# Altium integrated library Linear Technology Power Management Switching Regulator LTC1174-LTC3901.IntLib: 2647 symbols (part 259 of 364)
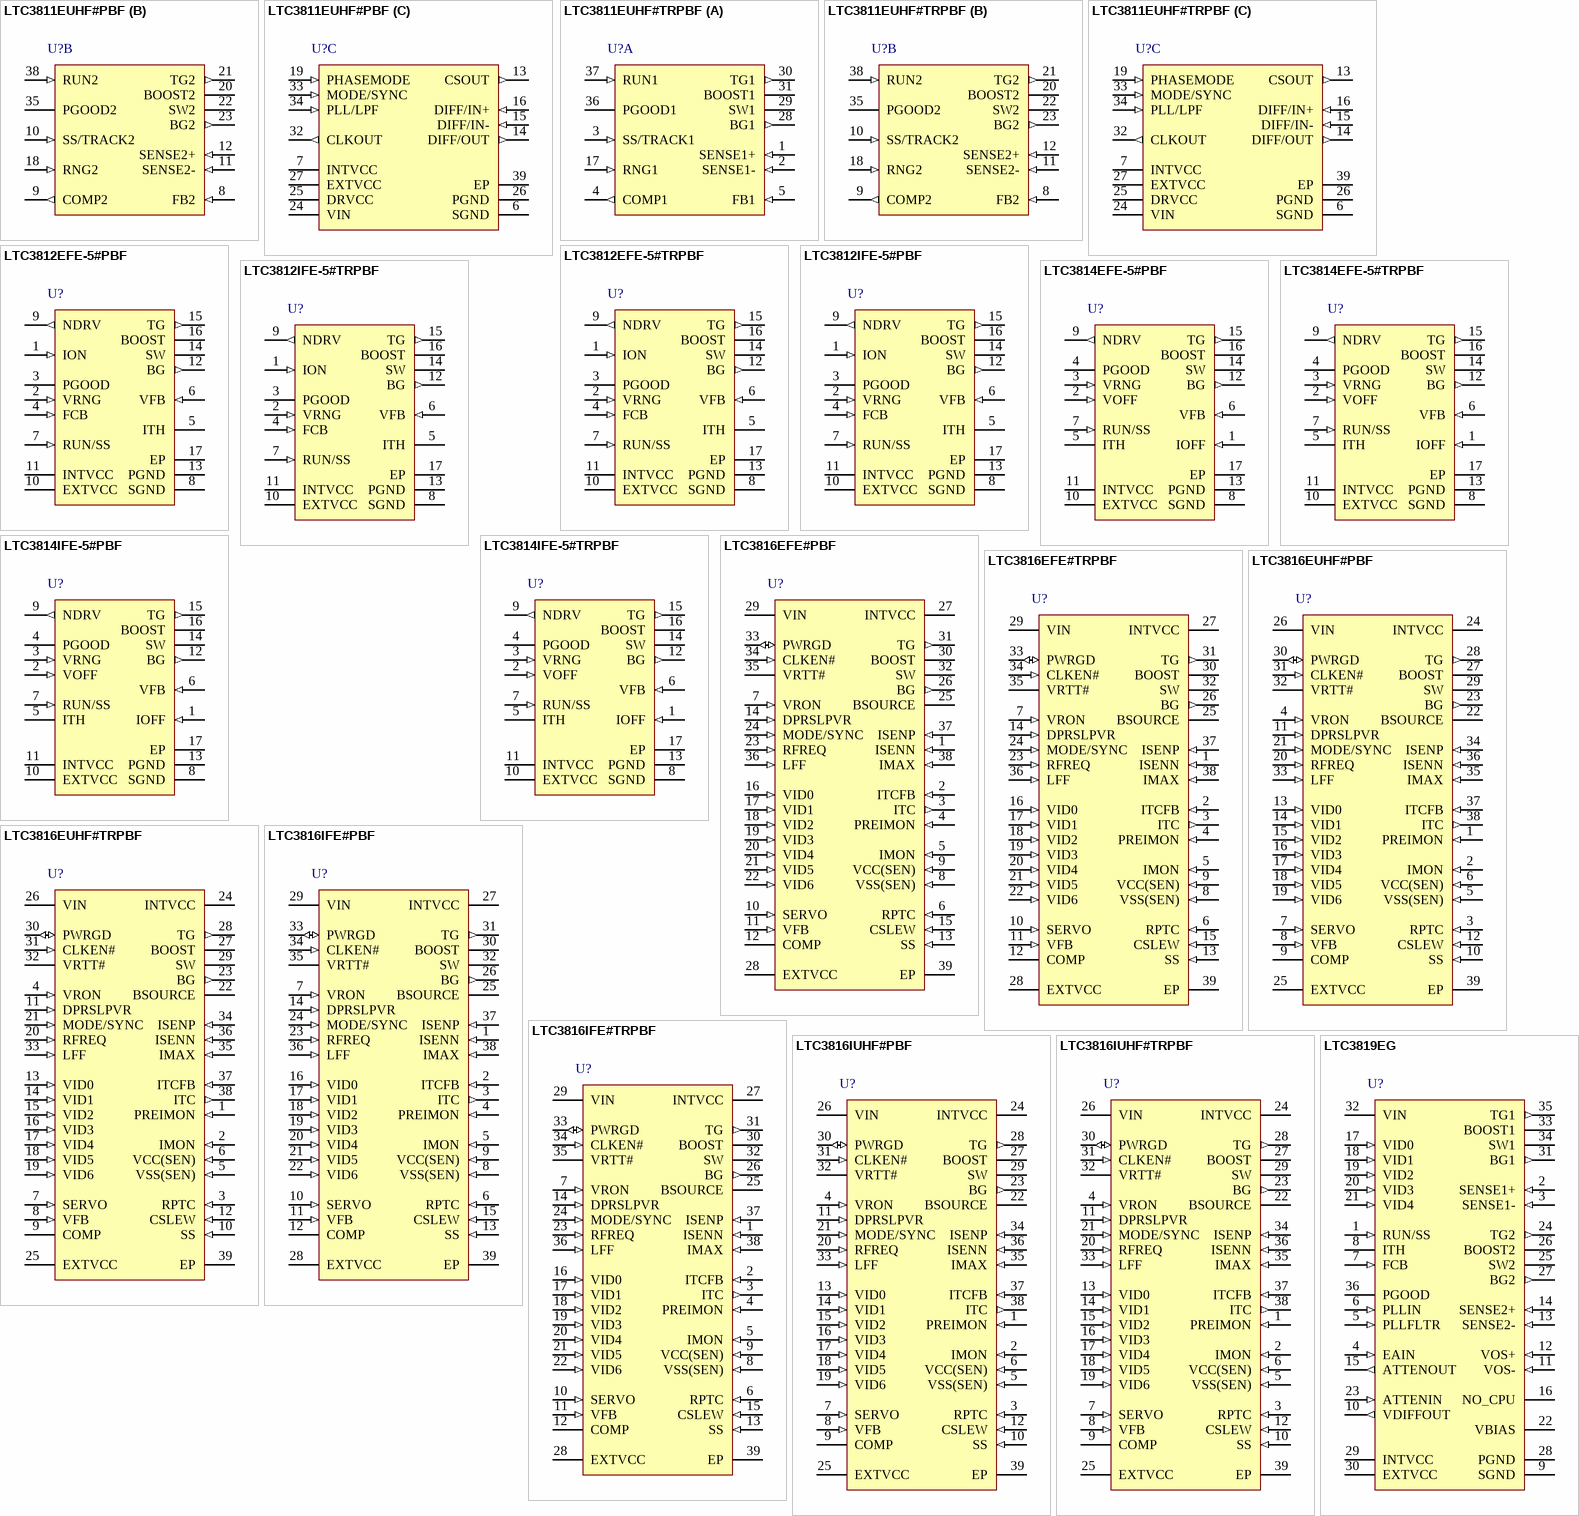
[diagram p249: symbols LTC3811EUHF#PBF to LTC3819EG]

## LTC3816IFE#TRPBF
designator U?
Single-Phase Wide VIN Range DC/DC Controller for Intel IMVP-6 / IMVP-6.5 CPUs, 38-pin SOP (FE-38-EPV-AA), -40 to 125 degC, Pb-Free, Tape and Reel; Manufacturer: Linear Technology; PartNumber: LTC3816IFE#TRPBF; Frequency Sync Range: 150kHz - 550kHz; Number of Outputs: 1; PackageVersion: Rev. C, 09/2010; PackageReference: FE-38; PackageDescription: 38-Pin Plastic TSSOP, Body 9.7 x 4.4 mm, Pitch 0.5 mm; Supplier 1: Digi-Key; Supplier Part Number 1: LTC3816IFE#TRPBF-ND; Packing: Tape and Reel; RoHS: TRUE; Mounting Technology: Surface Mount; ComponentLink1Description: Manufacturer URL; ComponentLink1URL: http://www.linear.com/; ComponentLink2Description: Datasheet; ComponentLink2URL: http://cds.linear.com/docs/en/datasheet/3816f.pdf; ComponentLink3Description: Package Specification; ComponentLink3URL: http://cds.linear.com/docs/en/packaging/TSSOP_38_05-08-1772.pdf
footprint LT-FE-38-EPV-AA_N (SOP, 38-Leads, Body 9.8x4.5mm, Pitch 0.5mm, Thermal Pad 4.75x2.74mm, IPC Medium Density)
footprint LT-FE-38-EPV-AA_L (SOP, 38-Leads, Body 9.8x4.5mm, Pitch 0.5mm, Thermal Pad 4.75x2.74mm, IPC High Density)
footprint LT-FE-38-EPV-AA_M (SOP, 38-Leads, Body 9.8x4.5mm, Pitch 0.5mm, Thermal Pad 4.75x2.74mm, IPC Low Density)
pins: 1 ISENN (in) "Current Sense Negative Input. Connect this pin to the negative terminal of the current sense resistor or the negative terminal of the inductor DCR lowpass filter.", 2 ITCFB (in) "Inductor DCR Temperature Compensation Amplifer Feedback Input. To derive the temperature compensated voltage dropped across the inductor DCR, connect a resistor from the SW node to this pin. An NTC network, in parallel with (See Datasheet)", 3 ITC (out) "Inductor DCR Temperature Compensation Amplifer Output. The IMON circuitry and the error amplifier obtain the temperature compensated DCR voltage through this amplifier.", 4 PREIMON (in) "IMON Current Output Setting. PREIMON is servoed to the ISENN potential. A resistor from PREIMON to ITC sets the IMON output current. For the IMVP-6 configuration, connect this pin to INTVCC.", 5 IMON (in) "IMVP-6/IMVP-6.5 Configuration Selection and Output Current Monitor. Connect this pin to INTVCC to select the IMVP-6 configuration. At start-up, the switcher VOUT is ramped to 1.2V (VBOOT). In deeper sleep mode, the (See Datasheet)", 6 RPTC (in) "Nonlinear PTC Thermistor Input. Connect to a nonlinear PTC thermistor for MOSFET or inductor temperature sensing. This pin is pulled up by a 100uA current source. If the potential at RPTC is higher than 0.47V, thermal flag (See Datasheet)", 7 VRON (in) "Voltage Regulator Enable Input. The VRON pin power-up threshold is 1.2V. When forced below 0.65V, a power-down sequence is initiated where the VCC(CORE) output is ramped down near 0V before the IC is put into a low current (See Datasheet)", 8 VSS(SEN) (in) "Processor VCC(CORE) Negative Terminal Voltage Sense. Negative input of the differential sense amplifier. Connect to the processor VSS(SEN) pin.", 9 VCC(SEN) (in) "Processor VCC(CORE) Positive Terminal Voltage Sense. Positive input of the differential sense amplifier. Connect to the processor VCC(SEN) pin.", 10 SERVO (in) "Error Amplifier AC Input. The controller servos the switcher output voltage to the VID DAC voltage through the error amplifier.", 11 VFB (in) "Error Amplifier Negative Input Pin. VFB is servoed to 1.3V.", 12 COMP "Error Amplifier Output. The COMP pin is connected directly to the error amplifier output and the input of the line feedforward circuit. Use an RC network between the COMP pin and the VFB pin to compensate the feedback loop (See Datasheet)", 13 SS (in) "Soft-Start Input. The SS pin has an internal 1uA current source pull-up. A capacitor connected to this pin controls the output voltage start-up. SS is forced low if VRON or PWRGD is low, or if an overvoltage or overcurrent (See Datasheet)", 14 DPRSLPVR (in) "Deeper Sleep Mode. For the IMVP-6 configuration, 25us after DPRSLPVR is asserted high, the controller enables the VOUT slow slew rate transition. To disable slow slew rate mode, force DPRSLPVR low. Upon power-up, the (See Datasheet)", 15 CSLEW (in) "VID DAC Slew Rate Control. CSLEW is internally pulled up by a current source. Add a capacitor to program the VID DAC transition slew rate. If slow slew rate is selected, a 100pF capacitor connected to CSLEW results in a VID (See Datasheet)", 16 VID0 (in) "VID DAC Voltage Control Logic Inputs. See Table 1.", 17 VID1 (in) "VID DAC Voltage Control Logic Inputs. See Table 1.", 18 VID2 (in) "VID DAC Voltage Control Logic Inputs. See Table 1.", 19 VID3 (in) "VID DAC Voltage Control Logic Inputs. See Table 1.", 20 VID4 (in) "VID DAC Voltage Control Logic Inputs. See Table 1.", 21 VID5 (in) "VID DAC Voltage Control Logic Inputs. See Table 1.", 22 VID6 (in) "VID DAC Voltage Control Logic Inputs. See Table 1.", 23 RFREQ (in) "Frequency Setting. The voltage on the RFREQ pin determines the free-running operating frequency. The RFREQ pin has an internal 10uA current source pull-up allowing the switching frequency to be programmed by a single (See Datasheet)", 24 MODE/SYNC (in) "Mode Select/Synchronization Input. This pin is pulled up by an internal 1uA current source. Floating this pin or shorting it to INTVCC enables pulse-skipping mode. Shorting this pin to ground configures forced continuous (See Datasheet)", 25 BSOURCE (power) "Bottom MOSFET Source. Connect this pin to the source of the bottom power MOSFET. Do not short BSOURCE to the LTC3816 exposed pad directly.", 26 BG (out) "Bottom Gate Drive. The BG pin drives the gate of the bottom N-channel synchronous switch MOSFET.", 27 INTVCC (power) "Output of the Internal Linear Low Dropout Regulator. The driver and control circuits are powered from this voltage source. The INTVCC pin must be decoupled to GND with a minimum 4.7uF low ESR ceramic capacitor (X5R or (See Datasheet)", 28 EXTVCC (power) "External Power Input to an Internal Switch Connected to INTVCC. This switch closes and supplies the IC power, bypassing the internal low dropout regulator, whenever EXTVCC is higher than 4.5V. Do not exceed 6V on this pin.", 29 VIN (power) "Main Supply Pin. A bypass capacitor should be connected from this pin to the GND pin.", 30 BOOST "Top Gate Driver Supply. The BOOST pin should be decoupled to the SW node with a 0.1uF low ESR (X5R or better) ceramic capacitor. An external Schottky diode from INTVCC to BOOST creates a complete floating charge-pumped (See Datasheet)", 31 TG (out) "Top Gate Drive. The TG pin drives the top N-channel MOSFET with a voltage swing equal to INTVCC superimposed on the switch node voltage.", 32 SW "Switching Node. Connect SW to the source of the upper power MOSFET and to the negative terminal of the BOOST pin decoupling capacitor", 33 PWRGD (io) "Open-Drain Power Good Output/ Power Bad Latchoff Input. PWRGD is an open-drain output pin and can be connected to other open-drain outputs to implement wire-ORing. PWRGD is externally pulled high 10ms after the output (See Datasheet)", 34 CLKEN# (in) "Open-Drain Clock Enable Indicator. 75us after VCC(CORE) reaches the VBOOT voltage, CLKEN# pulls low to enable the processor phase-locked loop.", 35 VRTT# (oc) "Open-Drain Output for Voltage Regulator Thermal Throttling. The VRTT# pin pulls low if the RPTC voltage exceeds 0.47V or if the control IC junction temperature exceeds 150degreesC.", 36 LFF (in) "Line Feedforward. This pin has a 1uA pull-up current source to INTVCC. Floating this pin or connecting it to INTVCC enables the line feedforward compensation. Connect this pin to GND to disable the line feedforward (See Datasheet)", 37 ISENP (in) "Current Sense Positive Input. Connect this pin to the positive terminal of the current sense resistor or to the output of the inductor DCR lowpass filter.", 38 IMAX (in) "Current Comparator Threshold Setting. The IMAX pin has an internal 10uA pull-up current source, allowing the current limit comparator threshold to be programmed by a single external resistor. The controller allows a (See Datasheet)", 39 EP (power) "Ground. The soft-start and slew rate control capacitors as well as the frequency setting and thermal shutdown resistors should return to this exposed pad ground pin. This GND pin should also be connected to the negative (See Datasheet)"

## LTC3816IUHF#PBF
designator U?
Single-Phase Wide VIN Range DC/DC Controller for Intel IMVP-6 / IMVP-6.5 CPUs, 38-pin QFN (UHF-38), -40 to 125 degC, Pb-Free; Manufacturer: Linear Technology; PartNumber: LTC3816IUHF#PBF; Frequency Sync Range: 150kHz - 550kHz; Number of Outputs: 1; PackageVersion: Rev. C, 06/2010; PackageReference: UHF-38; PackageDescription: 38-Pin Plastic QFN, Body 7 x 5 mm, Pitch 0.5 mm; Supplier 1: Digi-Key; Supplier Part Number 1: LTC3816IUHF#PBF-ND; RoHS: TRUE; Mounting Technology: Surface Mount; Code_JEDEC: MO-220; ComponentLink1Description: Manufacturer URL; ComponentLink1URL: http://www.linear.com/; ComponentLink2Description: Datasheet; ComponentLink2URL: http://cds.linear.com/docs/en/datasheet/3816f.pdf; ComponentLink3Description: Package Specification; ComponentLink3URL: http://cds.linear.com/docs/en/packaging/QFN_38_05-08-1701.pdf
footprint LT-UHF-38_N (QFN, 38-Leads, Body 7.1x5.1mm, Pitch 0.5mm, Thermal Pad 3.15x5.15mm, IPC Medium Density)
footprint LT-UHF-38_L (QFN, 38-Leads, Body 7.1x5.1mm, Pitch 0.5mm, Thermal Pad 3.15x5.15mm, IPC High Density)
footprint LT-UHF-38_M (QFN, 38-Leads, Body 7.1x5.1mm, Pitch 0.5mm, Thermal Pad 3.15x5.15mm, IPC Low Density)
pins: 1 PREIMON (in) "IMON Current Output Setting. PREIMON is servoed to the ISENN potential. A resistor from PREIMON to ITC sets the IMON output current. For the IMVP-6 configuration, connect this pin to INTVCC.", 2 IMON (in) "IMVP-6/IMVP-6.5 Configuration Selection and Output Current Monitor. Connect this pin to INTVCC to select the IMVP-6 configuration. At start-up, the switcher VOUT is ramped to 1.2V (VBOOT). In deeper sleep mode, the (See Datasheet)", 3 RPTC (in) "Nonlinear PTC Thermistor Input. Connect to a nonlinear PTC thermistor for MOSFET or inductor temperature sensing. This pin is pulled up by a 100uA current source. If the potential at RPTC is higher than 0.47V, thermal flag (See Datasheet)", 4 VRON (in) "Voltage Regulator Enable Input. The VRON pin power-up threshold is 1.2V. When forced below 0.65V, a power-down sequence is initiated where the VCC(CORE) output is ramped down near 0V before the IC is put into a low current (See Datasheet)", 5 VSS(SEN) (in) "Processor VCC(CORE) Negative Terminal Voltage Sense. Negative input of the differential sense amplifier. Connect to the processor VSS(SEN) pin.", 6 VCC(SEN) (in) "Processor VCC(CORE) Positive Terminal Voltage Sense. Positive input of the differential sense amplifier. Connect to the processor VCC(SEN) pin.", 7 SERVO (in) "Error Amplifier AC Input. The controller servos the switcher output voltage to the VID DAC voltage through the error amplifier.", 8 VFB (in) "Error Amplifier Negative Input Pin. VFB is servoed to 1.3V.", 9 COMP "Error Amplifier Output. The COMP pin is connected directly to the error amplifier output and the input of the line feedforward circuit. Use an RC network between the COMP pin and the VFB pin to compensate the feedback loop (See Datasheet)", 10 SS (in) "Soft-Start Input. The SS pin has an internal 1uA current source pull-up. A capacitor connected to this pin controls the output voltage start-up. SS is forced low if VRON or PWRGD is low, or if an overvoltage or overcurrent (See Datasheet)", 11 DPRSLPVR (in) "Deeper Sleep Mode. For the IMVP-6 configuration, 25us after DPRSLPVR is asserted high, the controller enables the VOUT slow slew rate transition. To disable slow slew rate mode, force DPRSLPVR low. Upon power-up, the (See Datasheet)", 12 CSLEW (in) "VID DAC Slew Rate Control. CSLEW is internally pulled up by a current source. Add a capacitor to program the VID DAC transition slew rate. If slow slew rate is selected, a 100pF capacitor connected to CSLEW results in a VID (See Datasheet)", 13 VID0 (in) "VID DAC Voltage Control Logic Inputs. See Table 1.", 14 VID1 (in) "VID DAC Voltage Control Logic Inputs. See Table 1.", 15 VID2 (in) "VID DAC Voltage Control Logic Inputs. See Table 1.", 16 VID3 (in) "VID DAC Voltage Control Logic Inputs. See Table 1.", 17 VID4 (in) "VID DAC Voltage Control Logic Inputs. See Table 1.", 18 VID5 (in) "VID DAC Voltage Control Logic Inputs. See Table 1.", 19 VID6 (in) "VID DAC Voltage Control Logic Inputs. See Table 1.", 20 RFREQ (in) "Frequency Setting. The voltage on the RFREQ pin determines the free-running operating frequency. The RFREQ pin has an internal 10uA current source pull-up allowing the switching frequency to be programmed by a single (See Datasheet)", 21 MODE/SYNC (in) "Mode Select/Synchronization Input. This pin is pulled up by an internal 1uA current source. Floating this pin or shorting it to INTVCC enables pulse-skipping mode. Shorting this pin to ground configures forced continuous (See Datasheet)", 22 BSOURCE (power) "Bottom MOSFET Source. Connect this pin to the source of the bottom power MOSFET. Do not short BSOURCE to the LTC3816 exposed pad directly.", 23 BG (out) "Bottom Gate Drive. The BG pin drives the gate of the bottom N-channel synchronous switch MOSFET.", 24 INTVCC (power) "Output of the Internal Linear Low Dropout Regulator. The driver and control circuits are powered from this voltage source. The INTVCC pin must be decoupled to GND with a minimum 4.7uF low ESR ceramic capacitor (X5R or (See Datasheet)", 25 EXTVCC (power) "External Power Input to an Internal Switch Connected to INTVCC. This switch closes and supplies the IC power, bypassing the internal low dropout regulator, whenever EXTVCC is higher than 4.5V. Do not exceed 6V on this pin.", 26 VIN (power) "Main Supply Pin. A bypass capacitor should be connected from this pin to the GND pin.", 27 BOOST "Top Gate Driver Supply. The BOOST pin should be decoupled to the SW node with a 0.1uF low ESR (X5R or better) ceramic capacitor. An external Schottky diode from INTVCC to BOOST creates a complete floating charge-pumped (See Datasheet)", 28 TG (out) "Top Gate Drive. The TG pin drives the top N-channel MOSFET with a voltage swing equal to INTVCC superimposed on the switch node voltage.", 29 SW "Switching Node. Connect SW to the source of the upper power MOSFET and to the negative terminal of the BOOST pin decoupling capacitor", 30 PWRGD (io) "Open-Drain Power Good Output/ Power Bad Latchoff Input. PWRGD is an open-drain output pin and can be connected to other open-drain outputs to implement wire-ORing. PWRGD is externally pulled high 10ms after the output (See Datasheet)", 31 CLKEN# (in) "Open-Drain Clock Enable Indicator. 75us after VCC(CORE) reaches the VBOOT voltage, CLKEN# pulls low to enable the processor phase-locked loop.", 32 VRTT# (oc) "Open-Drain Output for Voltage Regulator Thermal Throttling. The VRTT# pin pulls low if the RPTC voltage exceeds 0.47V or if the control IC junction temperature exceeds 150degreesC.", 33 LFF (in) "Line Feedforward. This pin has a 1uA pull-up current source to INTVCC. Floating this pin or connecting it to INTVCC enables the line feedforward compensation. Connect this pin to GND to disable the line feedforward (See Datasheet)", 34 ISENP (in) "Current Sense Positive Input. Connect this pin to the positive terminal of the current sense resistor or to the output of the inductor DCR lowpass filter.", 35 IMAX (in) "Current Comparator Threshold Setting. The IMAX pin has an internal 10uA pull-up current source, allowing the current limit comparator threshold to be programmed by a single external resistor. The controller allows a (See Datasheet)", 36 ISENN (in) "Current Sense Negative Input. Connect this pin to the negative terminal of the current sense resistor or the negative terminal of the inductor DCR lowpass filter.", 37 ITCFB (in) "Inductor DCR Temperature Compensation Amplifer Feedback Input. To derive the temperature compensated voltage dropped across the inductor DCR, connect a resistor from the SW node to this pin. An NTC network, in parallel with (See Datasheet)", 38 ITC (out) "Inductor DCR Temperature Compensation Amplifer Output. The IMON circuitry and the error amplifier obtain the temperature compensated DCR voltage through this amplifier.", 39 EP (power) "Ground. The soft-start and slew rate control capacitors as well as the frequency setting and thermal shutdown resistors should return to this exposed pad ground pin. This GND pin should also be connected to the negative (See Datasheet)"

## LTC3816IUHF#TRPBF
designator U?
Single-Phase Wide VIN Range DC/DC Controller for Intel IMVP-6 / IMVP-6.5 CPUs, 38-pin QFN (UHF-38), -40 to 125 degC, Pb-Free, Tape and Reel; Manufacturer: Linear Technology; PartNumber: LTC3816IUHF#TRPBF; Frequency Sync Range: 150kHz - 550kHz; Number of Outputs: 1; PackageVersion: Rev. C, 06/2010; PackageReference: UHF-38; PackageDescription: 38-Pin Plastic QFN, Body 7 x 5 mm, Pitch 0.5 mm; Supplier 1: Digi-Key; Supplier Part Number 1: LTC3816IUHF#TRPBF-ND; Packing: Tape and Reel; RoHS: TRUE; Mounting Technology: Surface Mount; Code_JEDEC: MO-220; ComponentLink1Description: Manufacturer URL; ComponentLink1URL: http://www.linear.com/; ComponentLink2Description: Datasheet; ComponentLink2URL: http://cds.linear.com/docs/en/datasheet/3816f.pdf; ComponentLink3Description: Package Specification; ComponentLink3URL: http://cds.linear.com/docs/en/packaging/QFN_38_05-08-1701.pdf
footprint LT-UHF-38_N (QFN, 38-Leads, Body 7.1x5.1mm, Pitch 0.5mm, Thermal Pad 3.15x5.15mm, IPC Medium Density)
footprint LT-UHF-38_L (QFN, 38-Leads, Body 7.1x5.1mm, Pitch 0.5mm, Thermal Pad 3.15x5.15mm, IPC High Density)
footprint LT-UHF-38_M (QFN, 38-Leads, Body 7.1x5.1mm, Pitch 0.5mm, Thermal Pad 3.15x5.15mm, IPC Low Density)
pins: 1 PREIMON (in) "IMON Current Output Setting. PREIMON is servoed to the ISENN potential. A resistor from PREIMON to ITC sets the IMON output current. For the IMVP-6 configuration, connect this pin to INTVCC.", 2 IMON (in) "IMVP-6/IMVP-6.5 Configuration Selection and Output Current Monitor. Connect this pin to INTVCC to select the IMVP-6 configuration. At start-up, the switcher VOUT is ramped to 1.2V (VBOOT). In deeper sleep mode, the (See Datasheet)", 3 RPTC (in) "Nonlinear PTC Thermistor Input. Connect to a nonlinear PTC thermistor for MOSFET or inductor temperature sensing. This pin is pulled up by a 100uA current source. If the potential at RPTC is higher than 0.47V, thermal flag (See Datasheet)", 4 VRON (in) "Voltage Regulator Enable Input. The VRON pin power-up threshold is 1.2V. When forced below 0.65V, a power-down sequence is initiated where the VCC(CORE) output is ramped down near 0V before the IC is put into a low current (See Datasheet)", 5 VSS(SEN) (in) "Processor VCC(CORE) Negative Terminal Voltage Sense. Negative input of the differential sense amplifier. Connect to the processor VSS(SEN) pin.", 6 VCC(SEN) (in) "Processor VCC(CORE) Positive Terminal Voltage Sense. Positive input of the differential sense amplifier. Connect to the processor VCC(SEN) pin.", 7 SERVO (in) "Error Amplifier AC Input. The controller servos the switcher output voltage to the VID DAC voltage through the error amplifier.", 8 VFB (in) "Error Amplifier Negative Input Pin. VFB is servoed to 1.3V.", 9 COMP "Error Amplifier Output. The COMP pin is connected directly to the error amplifier output and the input of the line feedforward circuit. Use an RC network between the COMP pin and the VFB pin to compensate the feedback loop (See Datasheet)", 10 SS (in) "Soft-Start Input. The SS pin has an internal 1uA current source pull-up. A capacitor connected to this pin controls the output voltage start-up. SS is forced low if VRON or PWRGD is low, or if an overvoltage or overcurrent (See Datasheet)", 11 DPRSLPVR (in) "Deeper Sleep Mode. For the IMVP-6 configuration, 25us after DPRSLPVR is asserted high, the controller enables the VOUT slow slew rate transition. To disable slow slew rate mode, force DPRSLPVR low. Upon power-up, the (See Datasheet)", 12 CSLEW (in) "VID DAC Slew Rate Control. CSLEW is internally pulled up by a current source. Add a capacitor to program the VID DAC transition slew rate. If slow slew rate is selected, a 100pF capacitor connected to CSLEW results in a VID (See Datasheet)", 13 VID0 (in) "VID DAC Voltage Control Logic Inputs. See Table 1.", 14 VID1 (in) "VID DAC Voltage Control Logic Inputs. See Table 1.", 15 VID2 (in) "VID DAC Voltage Control Logic Inputs. See Table 1.", 16 VID3 (in) "VID DAC Voltage Control Logic Inputs. See Table 1.", 17 VID4 (in) "VID DAC Voltage Control Logic Inputs. See Table 1.", 18 VID5 (in) "VID DAC Voltage Control Logic Inputs. See Table 1.", 19 VID6 (in) "VID DAC Voltage Control Logic Inputs. See Table 1.", 20 RFREQ (in) "Frequency Setting. The voltage on the RFREQ pin determines the free-running operating frequency. The RFREQ pin has an internal 10uA current source pull-up allowing the switching frequency to be programmed by a single (See Datasheet)", 21 MODE/SYNC (in) "Mode Select/Synchronization Input. This pin is pulled up by an internal 1uA current source. Floating this pin or shorting it to INTVCC enables pulse-skipping mode. Shorting this pin to ground configures forced continuous (See Datasheet)", 22 BSOURCE (power) "Bottom MOSFET Source. Connect this pin to the source of the bottom power MOSFET. Do not short BSOURCE to the LTC3816 exposed pad directly.", 23 BG (out) "Bottom Gate Drive. The BG pin drives the gate of the bottom N-channel synchronous switch MOSFET.", 24 INTVCC (power) "Output of the Internal Linear Low Dropout Regulator. The driver and control circuits are powered from this voltage source. The INTVCC pin must be decoupled to GND with a minimum 4.7uF low ESR ceramic capacitor (X5R or (See Datasheet)", 25 EXTVCC (power) "External Power Input to an Internal Switch Connected to INTVCC. This switch closes and supplies the IC power, bypassing the internal low dropout regulator, whenever EXTVCC is higher than 4.5V. Do not exceed 6V on this pin.", 26 VIN (power) "Main Supply Pin. A bypass capacitor should be connected from this pin to the GND pin.", 27 BOOST "Top Gate Driver Supply. The BOOST pin should be decoupled to the SW node with a 0.1uF low ESR (X5R or better) ceramic capacitor. An external Schottky diode from INTVCC to BOOST creates a complete floating charge-pumped (See Datasheet)", 28 TG (out) "Top Gate Drive. The TG pin drives the top N-channel MOSFET with a voltage swing equal to INTVCC superimposed on the switch node voltage.", 29 SW "Switching Node. Connect SW to the source of the upper power MOSFET and to the negative terminal of the BOOST pin decoupling capacitor", 30 PWRGD (io) "Open-Drain Power Good Output/ Power Bad Latchoff Input. PWRGD is an open-drain output pin and can be connected to other open-drain outputs to implement wire-ORing. PWRGD is externally pulled high 10ms after the output (See Datasheet)", 31 CLKEN# (in) "Open-Drain Clock Enable Indicator. 75us after VCC(CORE) reaches the VBOOT voltage, CLKEN# pulls low to enable the processor phase-locked loop.", 32 VRTT# (oc) "Open-Drain Output for Voltage Regulator Thermal Throttling. The VRTT# pin pulls low if the RPTC voltage exceeds 0.47V or if the control IC junction temperature exceeds 150degreesC.", 33 LFF (in) "Line Feedforward. This pin has a 1uA pull-up current source to INTVCC. Floating this pin or connecting it to INTVCC enables the line feedforward compensation. Connect this pin to GND to disable the line feedforward (See Datasheet)", 34 ISENP (in) "Current Sense Positive Input. Connect this pin to the positive terminal of the current sense resistor or to the output of the inductor DCR lowpass filter.", 35 IMAX (in) "Current Comparator Threshold Setting. The IMAX pin has an internal 10uA pull-up current source, allowing the current limit comparator threshold to be programmed by a single external resistor. The controller allows a (See Datasheet)", 36 ISENN (in) "Current Sense Negative Input. Connect this pin to the negative terminal of the current sense resistor or the negative terminal of the inductor DCR lowpass filter.", 37 ITCFB (in) "Inductor DCR Temperature Compensation Amplifer Feedback Input. To derive the temperature compensated voltage dropped across the inductor DCR, connect a resistor from the SW node to this pin. An NTC network, in parallel with (See Datasheet)", 38 ITC (out) "Inductor DCR Temperature Compensation Amplifer Output. The IMON circuitry and the error amplifier obtain the temperature compensated DCR voltage through this amplifier.", 39 EP (power) "Ground. The soft-start and slew rate control capacitors as well as the frequency setting and thermal shutdown resistors should return to this exposed pad ground pin. This GND pin should also be connected to the negative (See Datasheet)"

## LTC3819EG
designator U?
2-Phase, High Efficiency, Step-Down Controller for Sun Server CPUs, 36-pin SOP (G-36), -40 to 85 degC; Manufacturer: Linear Technology; PartNumber: LTC3819EG; Frequency Sync Range: 150kHz - 300kHz; Number of Outputs: 1; PackageReference: G-36; PackageDescription: 36-Pin Plastic SSOP, Body 12.8 x 5.3 mm, Pitch 0.65 mm; RoHS: FALSE; Mounting Technology: Surface Mount; ComponentLink1Description: Manufacturer URL; ComponentLink1URL: http://www.linear.com/; ComponentLink2Description: Datasheet; ComponentLink2URL: http://cds.linear.com/docs/en/datasheet/3819f.pdf; ComponentLink3Description: Package Specification; ComponentLink3URL: http://cds.linear.com/docs/en/packaging/SSOP_36_05-08-1640.pdf
footprint LT-G-36_N (SOP, 36-Leads, Body 13.1x5.6mm, Pitch 0.65mm, IPC Medium Density)
footprint LT-G-36_L (SOP, 36-Leads, Body 13.1x5.6mm, Pitch 0.65mm, IPC High Density)
footprint LT-G-36_M (SOP, 36-Leads, Body 13.1x5.6mm, Pitch 0.65mm, IPC Low Density)
pins: 1 RUN/SS (in) "Combination of Soft-Start, Run Control Input and Short-Circuit Detection Timer. A capacitor to ground at this pin sets the ramp time to full current output. Forcing this pin below 0.8V causes the IC to shut down all internal (See Datasheet)", 2 SENSE1+ (in) "The (+) Input to Each Differential Current Comparator. The ITH pin voltage and built-in offsets between SENSE-  and SENSE+  pins in conjunction with RSENSE set the current trip threshold.", 3 SENSE1- (in) "The (-) Input to the Differential Current Comparators.", 4 EAIN (in) "Input to the error amplifier that compares the feedback voltage to the internal 0.6V reference voltage. This pin is normally connected to a resistive divider from the output of the differential amplifier (DIFFOUT).", 5 PLLFLTR (in) "The phase-locked loop’s lowpass filter is tied to this pin. Alternatively, this pin can be driven with an AC or DC voltage source to vary the frequency of the internal oscillator. Do not apply voltage to this pin prior t(See Datasheet)", 6 PLLIN (in) "External Synchronization Input to Phase Detector. This pin is internally terminated to SGND with 50k ohm. The phase-locked loop will force the rising top gate signal of controller 1 to be synchronized with the rising edge of (See Datasheet)", 7 FCB (in) "Forced Continuous Control Input. This input acts on both output stages. Pulling this pin below 0.6V will force continuous synchronous operation. Do not leave this pin floating without a decoupling capacitor.", 8 ITH "Error Amplifier Output and Switching Regulator Compensation Point. Both current comparator’s thresholds increase with this control voltage. The normal voltage range of this pin is from 0V to 2.4V", 9 SGND (power) "Signal Ground. This pin is common to both controllers. Route separately to the PGND pin.", 10 VDIFFOUT (out) "Output of a Differential Amplifier. This pin provides true remote output voltage sensing. VDIFFOUT normally drives an external resistive divider that sets the output voltage.", 11 VOS- (in) "Inputs toan Operational Amplifier. Internal precision resistors configure it as a differential amplifier whose output is VDIFFOUT.", 12 VOS+ (in) "Inputs toan Operational Amplifier. Internal precision resistors configure it as a differential amplifier whose output is VDIFFOUT.", 13 SENSE2- (in) "The (-) Input to the Differential Current Comparators.", 14 SENSE2+ (in) "The (+) Input to Each Differential Current Comparator. The ITH pin voltage and built-in offsets between SENSE-  and SENSE+  pins in conjunction with RSENSE set the current trip threshold.", 15 ATTENOUT (out) "Voltage Feedback Signal Resistively Divided According to the VID Programming Code.", 16 NO_CPU (oc) "Open-Drain Logic Output. NO_CPU is pulled to ground if VID0 to VID3 are all high.", 17 VID0 (in) "VID Control Logic Input Pins.", 18 VID1 (in) "VID Control Logic Input Pins.", 19 VID2 (in) "VID Control Logic Input Pins.", 20 VID3 (in) "VID Control Logic Input Pins.", 21 VID4 (in) "VID Control Logic Input Pins.", 22 VBIAS (power) "Supply Pin for the VID Control Circuit.", 23 ATTENIN (in) "The Input to the VID Controlled Resistive Divider.", 24 TG2 (out), 25 SW2 "Switch Node Connections to Inductors. Voltage swing at these pins is from a Schottky diode (external) voltage drop below ground to VIN.", 26 BOOST2 "Bootstrapped Supplies to the Topside Floating Drivers. External capacitors are connected between the BOOST and SW pins, and Schottky diodes are connected between the BOOST and INTVCC pins.", 27 BG2 (out) "High Current Gate Drives for Bottom N-Channel MOSFETS. Voltage swing at these pins is from ground to INTVCC.", 28 PGND (power) "Driver Power Ground. Connect to sources of bottom N-channel MOSFETS and the (-) terminals of CIN.", 29 INTVCC (power) "Output of the Internal 5V Linear Low Dropout Regulator and the EXTVCC Switch. The driver and control circuits are powered from this voltage source. Decouple to power ground with a 1uF ceramic capacitor placed directly (See Datasheet)", 30 EXTVCC (power) "External Power Input to an Internal Switch. This switch closes and supplies INTVCC, bypassing the internallow dropout regulator whenever EXTVCC is higher than 4.7V. See EXTVCC Connection in the Applications Information (See Datasheet)", 31 BG1 (out) "High Current Gate Drives for Bottom N-Channel MOSFETS. Voltage swing at these pins is from ground to INTVCC.", 32 VIN (power) "Main Supply Pin. Should be closely decoupled to the IC’s signal ground pin.", 33 BOOST1 "Bootstrapped Supplies to the Topside Floating Drivers. External capacitors are connected between the BOOST and SW pins, and Schottky diodes are connected between the BOOST and INTVCC pins.", 34 SW1 "Switch Node Connections to Inductors. Voltage swing at these pins is from a Schottky diode (external) voltage drop below ground to VIN.", 35 TG1 (out), 36 PGOOD (oc) "Open-Drain Logic Output. PGOOD is pulled to ground when the voltage on the EAIN pin is not within +/-10% of its set point."

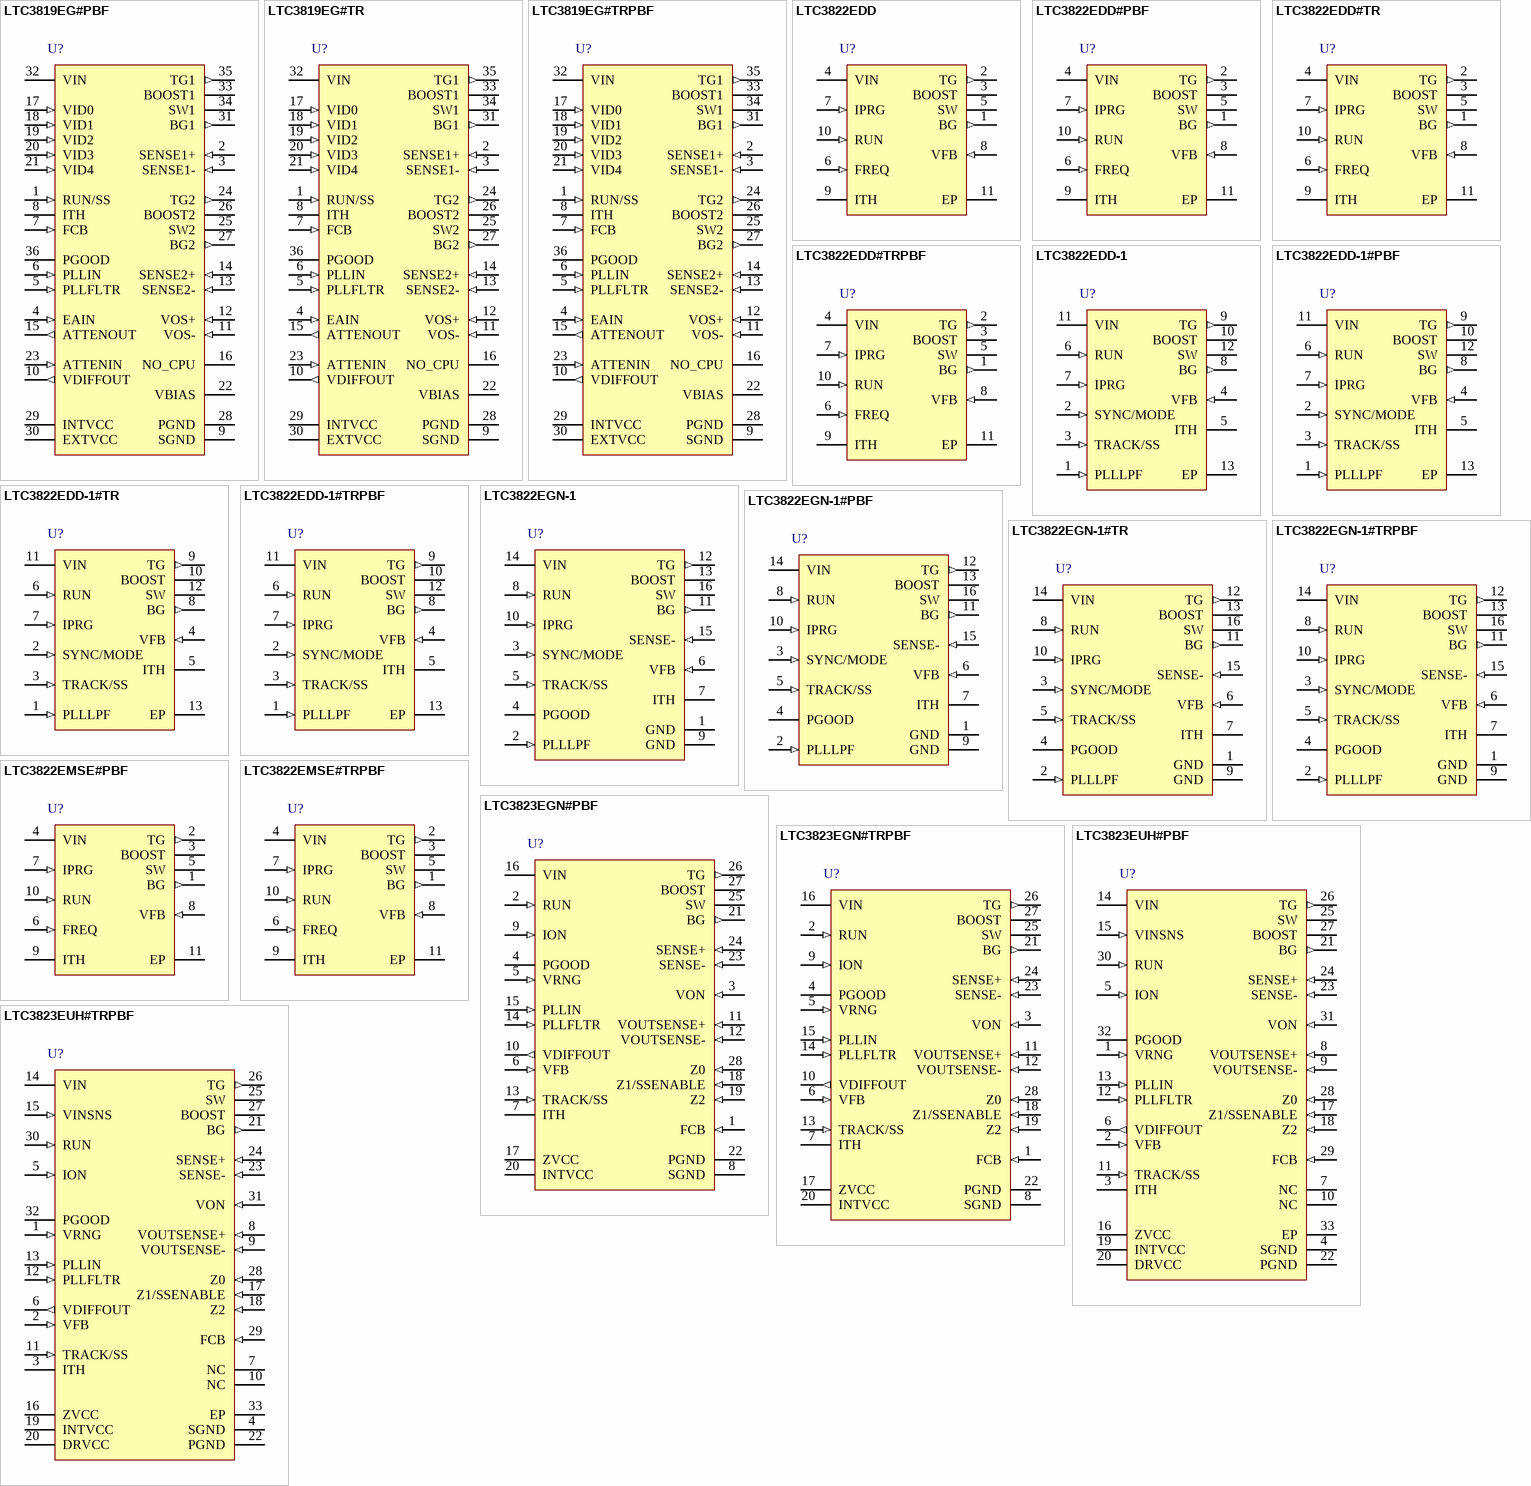
[diagram p80: symbols LTC3819EG#PBF to LTC3823EUH#TRPBF]

## LTC3819EG#PBF
designator U?
2-Phase, High Efficiency, Step-Down Controller for Sun Server CPUs, 36-pin SOP (G-36), -40 to 85 degC, Pb-Free; Manufacturer: Linear Technology; PartNumber: LTC3819EG#PBF; Frequency Sync Range: 150kHz - 300kHz; Number of Outputs: 1; PackageReference: G-36; PackageDescription: 36-Pin Plastic SSOP, Body 12.8 x 5.3 mm, Pitch 0.65 mm; Supplier 1: Digi-Key; Supplier Part Number 1: LTC3819EG#PBF-ND; RoHS: TRUE; Mounting Technology: Surface Mount; ComponentLink1Description: Manufacturer URL; ComponentLink1URL: http://www.linear.com/; ComponentLink2Description: Datasheet; ComponentLink2URL: http://cds.linear.com/docs/en/datasheet/3819f.pdf; ComponentLink3Description: Package Specification; ComponentLink3URL: http://cds.linear.com/docs/en/packaging/SSOP_36_05-08-1640.pdf
footprint LT-G-36_N (SOP, 36-Leads, Body 13.1x5.6mm, Pitch 0.65mm, IPC Medium Density)
footprint LT-G-36_L (SOP, 36-Leads, Body 13.1x5.6mm, Pitch 0.65mm, IPC High Density)
footprint LT-G-36_M (SOP, 36-Leads, Body 13.1x5.6mm, Pitch 0.65mm, IPC Low Density)
pins: 1 RUN/SS (in) "Combination of Soft-Start, Run Control Input and Short-Circuit Detection Timer. A capacitor to ground at this pin sets the ramp time to full current output. Forcing this pin below 0.8V causes the IC to shut down all internal (See Datasheet)", 2 SENSE1+ (in) "The (+) Input to Each Differential Current Comparator. The ITH pin voltage and built-in offsets between SENSE-  and SENSE+  pins in conjunction with RSENSE set the current trip threshold.", 3 SENSE1- (in) "The (-) Input to the Differential Current Comparators.", 4 EAIN (in) "Input to the error amplifier that compares the feedback voltage to the internal 0.6V reference voltage. This pin is normally connected to a resistive divider from the output of the differential amplifier (DIFFOUT).", 5 PLLFLTR (in) "The phase-locked loop’s lowpass filter is tied to this pin. Alternatively, this pin can be driven with an AC or DC voltage source to vary the frequency of the internal oscillator. Do not apply voltage to this pin prior t(See Datasheet)", 6 PLLIN (in) "External Synchronization Input to Phase Detector. This pin is internally terminated to SGND with 50k ohm. The phase-locked loop will force the rising top gate signal of controller 1 to be synchronized with the rising edge of (See Datasheet)", 7 FCB (in) "Forced Continuous Control Input. This input acts on both output stages. Pulling this pin below 0.6V will force continuous synchronous operation. Do not leave this pin floating without a decoupling capacitor.", 8 ITH "Error Amplifier Output and Switching Regulator Compensation Point. Both current comparator’s thresholds increase with this control voltage. The normal voltage range of this pin is from 0V to 2.4V", 9 SGND (power) "Signal Ground. This pin is common to both controllers. Route separately to the PGND pin.", 10 VDIFFOUT (out) "Output of a Differential Amplifier. This pin provides true remote output voltage sensing. VDIFFOUT normally drives an external resistive divider that sets the output voltage.", 11 VOS- (in) "Inputs toan Operational Amplifier. Internal precision resistors configure it as a differential amplifier whose output is VDIFFOUT.", 12 VOS+ (in) "Inputs toan Operational Amplifier. Internal precision resistors configure it as a differential amplifier whose output is VDIFFOUT.", 13 SENSE2- (in) "The (-) Input to the Differential Current Comparators.", 14 SENSE2+ (in) "The (+) Input to Each Differential Current Comparator. The ITH pin voltage and built-in offsets between SENSE-  and SENSE+  pins in conjunction with RSENSE set the current trip threshold.", 15 ATTENOUT (out) "Voltage Feedback Signal Resistively Divided According to the VID Programming Code.", 16 NO_CPU (oc) "Open-Drain Logic Output. NO_CPU is pulled to ground if VID0 to VID3 are all high.", 17 VID0 (in) "VID Control Logic Input Pins.", 18 VID1 (in) "VID Control Logic Input Pins.", 19 VID2 (in) "VID Control Logic Input Pins.", 20 VID3 (in) "VID Control Logic Input Pins.", 21 VID4 (in) "VID Control Logic Input Pins.", 22 VBIAS (power) "Supply Pin for the VID Control Circuit.", 23 ATTENIN (in) "The Input to the VID Controlled Resistive Divider.", 24 TG2 (out), 25 SW2 "Switch Node Connections to Inductors. Voltage swing at these pins is from a Schottky diode (external) voltage drop below ground to VIN.", 26 BOOST2 "Bootstrapped Supplies to the Topside Floating Drivers. External capacitors are connected between the BOOST and SW pins, and Schottky diodes are connected between the BOOST and INTVCC pins.", 27 BG2 (out) "High Current Gate Drives for Bottom N-Channel MOSFETS. Voltage swing at these pins is from ground to INTVCC.", 28 PGND (power) "Driver Power Ground. Connect to sources of bottom N-channel MOSFETS and the (-) terminals of CIN.", 29 INTVCC (power) "Output of the Internal 5V Linear Low Dropout Regulator and the EXTVCC Switch. The driver and control circuits are powered from this voltage source. Decouple to power ground with a 1uF ceramic capacitor placed directly (See Datasheet)", 30 EXTVCC (power) "External Power Input to an Internal Switch. This switch closes and supplies INTVCC, bypassing the internallow dropout regulator whenever EXTVCC is higher than 4.7V. See EXTVCC Connection in the Applications Information (See Datasheet)", 31 BG1 (out) "High Current Gate Drives for Bottom N-Channel MOSFETS. Voltage swing at these pins is from ground to INTVCC.", 32 VIN (power) "Main Supply Pin. Should be closely decoupled to the IC’s signal ground pin.", 33 BOOST1 "Bootstrapped Supplies to the Topside Floating Drivers. External capacitors are connected between the BOOST and SW pins, and Schottky diodes are connected between the BOOST and INTVCC pins.", 34 SW1 "Switch Node Connections to Inductors. Voltage swing at these pins is from a Schottky diode (external) voltage drop below ground to VIN.", 35 TG1 (out), 36 PGOOD (oc) "Open-Drain Logic Output. PGOOD is pulled to ground when the voltage on the EAIN pin is not within +/-10% of its set point."

## LTC3819EG#TR
designator U?
2-Phase, High Efficiency, Step-Down Controller for Sun Server CPUs, 36-pin SOP (G-36), -40 to 85 degC, Tape and Reel; Manufacturer: Linear Technology; PartNumber: LTC3819EG#TR; Frequency Sync Range: 150kHz - 300kHz; Number of Outputs: 1; PackageReference: G-36; PackageDescription: 36-Pin Plastic SSOP, Body 12.8 x 5.3 mm, Pitch 0.65 mm; Packing: Tape and Reel; RoHS: FALSE; Mounting Technology: Surface Mount; ComponentLink1Description: Manufacturer URL; ComponentLink1URL: http://www.linear.com/; ComponentLink2Description: Datasheet; ComponentLink2URL: http://cds.linear.com/docs/en/datasheet/3819f.pdf; ComponentLink3Description: Package Specification; ComponentLink3URL: http://cds.linear.com/docs/en/packaging/SSOP_36_05-08-1640.pdf
footprint LT-G-36_N (SOP, 36-Leads, Body 13.1x5.6mm, Pitch 0.65mm, IPC Medium Density)
footprint LT-G-36_L (SOP, 36-Leads, Body 13.1x5.6mm, Pitch 0.65mm, IPC High Density)
footprint LT-G-36_M (SOP, 36-Leads, Body 13.1x5.6mm, Pitch 0.65mm, IPC Low Density)
pins: 1 RUN/SS (in) "Combination of Soft-Start, Run Control Input and Short-Circuit Detection Timer. A capacitor to ground at this pin sets the ramp time to full current output. Forcing this pin below 0.8V causes the IC to shut down all internal (See Datasheet)", 2 SENSE1+ (in) "The (+) Input to Each Differential Current Comparator. The ITH pin voltage and built-in offsets between SENSE-  and SENSE+  pins in conjunction with RSENSE set the current trip threshold.", 3 SENSE1- (in) "The (-) Input to the Differential Current Comparators.", 4 EAIN (in) "Input to the error amplifier that compares the feedback voltage to the internal 0.6V reference voltage. This pin is normally connected to a resistive divider from the output of the differential amplifier (DIFFOUT).", 5 PLLFLTR (in) "The phase-locked loop’s lowpass filter is tied to this pin. Alternatively, this pin can be driven with an AC or DC voltage source to vary the frequency of the internal oscillator. Do not apply voltage to this pin prior t(See Datasheet)", 6 PLLIN (in) "External Synchronization Input to Phase Detector. This pin is internally terminated to SGND with 50k ohm. The phase-locked loop will force the rising top gate signal of controller 1 to be synchronized with the rising edge of (See Datasheet)", 7 FCB (in) "Forced Continuous Control Input. This input acts on both output stages. Pulling this pin below 0.6V will force continuous synchronous operation. Do not leave this pin floating without a decoupling capacitor.", 8 ITH "Error Amplifier Output and Switching Regulator Compensation Point. Both current comparator’s thresholds increase with this control voltage. The normal voltage range of this pin is from 0V to 2.4V", 9 SGND (power) "Signal Ground. This pin is common to both controllers. Route separately to the PGND pin.", 10 VDIFFOUT (out) "Output of a Differential Amplifier. This pin provides true remote output voltage sensing. VDIFFOUT normally drives an external resistive divider that sets the output voltage.", 11 VOS- (in) "Inputs toan Operational Amplifier. Internal precision resistors configure it as a differential amplifier whose output is VDIFFOUT.", 12 VOS+ (in) "Inputs toan Operational Amplifier. Internal precision resistors configure it as a differential amplifier whose output is VDIFFOUT.", 13 SENSE2- (in) "The (-) Input to the Differential Current Comparators.", 14 SENSE2+ (in) "The (+) Input to Each Differential Current Comparator. The ITH pin voltage and built-in offsets between SENSE-  and SENSE+  pins in conjunction with RSENSE set the current trip threshold.", 15 ATTENOUT (out) "Voltage Feedback Signal Resistively Divided According to the VID Programming Code.", 16 NO_CPU (oc) "Open-Drain Logic Output. NO_CPU is pulled to ground if VID0 to VID3 are all high.", 17 VID0 (in) "VID Control Logic Input Pins.", 18 VID1 (in) "VID Control Logic Input Pins.", 19 VID2 (in) "VID Control Logic Input Pins.", 20 VID3 (in) "VID Control Logic Input Pins.", 21 VID4 (in) "VID Control Logic Input Pins.", 22 VBIAS (power) "Supply Pin for the VID Control Circuit.", 23 ATTENIN (in) "The Input to the VID Controlled Resistive Divider.", 24 TG2 (out), 25 SW2 "Switch Node Connections to Inductors. Voltage swing at these pins is from a Schottky diode (external) voltage drop below ground to VIN.", 26 BOOST2 "Bootstrapped Supplies to the Topside Floating Drivers. External capacitors are connected between the BOOST and SW pins, and Schottky diodes are connected between the BOOST and INTVCC pins.", 27 BG2 (out) "High Current Gate Drives for Bottom N-Channel MOSFETS. Voltage swing at these pins is from ground to INTVCC.", 28 PGND (power) "Driver Power Ground. Connect to sources of bottom N-channel MOSFETS and the (-) terminals of CIN.", 29 INTVCC (power) "Output of the Internal 5V Linear Low Dropout Regulator and the EXTVCC Switch. The driver and control circuits are powered from this voltage source. Decouple to power ground with a 1uF ceramic capacitor placed directly (See Datasheet)", 30 EXTVCC (power) "External Power Input to an Internal Switch. This switch closes and supplies INTVCC, bypassing the internallow dropout regulator whenever EXTVCC is higher than 4.7V. See EXTVCC Connection in the Applications Information (See Datasheet)", 31 BG1 (out) "High Current Gate Drives for Bottom N-Channel MOSFETS. Voltage swing at these pins is from ground to INTVCC.", 32 VIN (power) "Main Supply Pin. Should be closely decoupled to the IC’s signal ground pin.", 33 BOOST1 "Bootstrapped Supplies to the Topside Floating Drivers. External capacitors are connected between the BOOST and SW pins, and Schottky diodes are connected between the BOOST and INTVCC pins.", 34 SW1 "Switch Node Connections to Inductors. Voltage swing at these pins is from a Schottky diode (external) voltage drop below ground to VIN.", 35 TG1 (out), 36 PGOOD (oc) "Open-Drain Logic Output. PGOOD is pulled to ground when the voltage on the EAIN pin is not within +/-10% of its set point."

## LTC3819EG#TRPBF
designator U?
2-Phase, High Efficiency, Step-Down Controller for Sun Server CPUs, 36-pin SOP (G-36), -40 to 85 degC, Pb-Free, Tape and Reel; Manufacturer: Linear Technology; PartNumber: LTC3819EG#TRPBF; Frequency Sync Range: 150kHz - 300kHz; Number of Outputs: 1; PackageReference: G-36; PackageDescription: 36-Pin Plastic SSOP, Body 12.8 x 5.3 mm, Pitch 0.65 mm; Supplier 1: Digi-Key; Supplier Part Number 1: LTC3819EG#TRPBF-ND; Packing: Tape and Reel; RoHS: TRUE; Mounting Technology: Surface Mount; ComponentLink1Description: Manufacturer URL; ComponentLink1URL: http://www.linear.com/; ComponentLink2Description: Datasheet; ComponentLink2URL: http://cds.linear.com/docs/en/datasheet/3819f.pdf; ComponentLink3Description: Package Specification; ComponentLink3URL: http://cds.linear.com/docs/en/packaging/SSOP_36_05-08-1640.pdf
footprint LT-G-36_N (SOP, 36-Leads, Body 13.1x5.6mm, Pitch 0.65mm, IPC Medium Density)
footprint LT-G-36_L (SOP, 36-Leads, Body 13.1x5.6mm, Pitch 0.65mm, IPC High Density)
footprint LT-G-36_M (SOP, 36-Leads, Body 13.1x5.6mm, Pitch 0.65mm, IPC Low Density)
pins: 1 RUN/SS (in) "Combination of Soft-Start, Run Control Input and Short-Circuit Detection Timer. A capacitor to ground at this pin sets the ramp time to full current output. Forcing this pin below 0.8V causes the IC to shut down all internal (See Datasheet)", 2 SENSE1+ (in) "The (+) Input to Each Differential Current Comparator. The ITH pin voltage and built-in offsets between SENSE-  and SENSE+  pins in conjunction with RSENSE set the current trip threshold.", 3 SENSE1- (in) "The (-) Input to the Differential Current Comparators.", 4 EAIN (in) "Input to the error amplifier that compares the feedback voltage to the internal 0.6V reference voltage. This pin is normally connected to a resistive divider from the output of the differential amplifier (DIFFOUT).", 5 PLLFLTR (in) "The phase-locked loop’s lowpass filter is tied to this pin. Alternatively, this pin can be driven with an AC or DC voltage source to vary the frequency of the internal oscillator. Do not apply voltage to this pin prior t(See Datasheet)", 6 PLLIN (in) "External Synchronization Input to Phase Detector. This pin is internally terminated to SGND with 50k ohm. The phase-locked loop will force the rising top gate signal of controller 1 to be synchronized with the rising edge of (See Datasheet)", 7 FCB (in) "Forced Continuous Control Input. This input acts on both output stages. Pulling this pin below 0.6V will force continuous synchronous operation. Do not leave this pin floating without a decoupling capacitor.", 8 ITH "Error Amplifier Output and Switching Regulator Compensation Point. Both current comparator’s thresholds increase with this control voltage. The normal voltage range of this pin is from 0V to 2.4V", 9 SGND (power) "Signal Ground. This pin is common to both controllers. Route separately to the PGND pin.", 10 VDIFFOUT (out) "Output of a Differential Amplifier. This pin provides true remote output voltage sensing. VDIFFOUT normally drives an external resistive divider that sets the output voltage.", 11 VOS- (in) "Inputs toan Operational Amplifier. Internal precision resistors configure it as a differential amplifier whose output is VDIFFOUT.", 12 VOS+ (in) "Inputs toan Operational Amplifier. Internal precision resistors configure it as a differential amplifier whose output is VDIFFOUT.", 13 SENSE2- (in) "The (-) Input to the Differential Current Comparators.", 14 SENSE2+ (in) "The (+) Input to Each Differential Current Comparator. The ITH pin voltage and built-in offsets between SENSE-  and SENSE+  pins in conjunction with RSENSE set the current trip threshold.", 15 ATTENOUT (out) "Voltage Feedback Signal Resistively Divided According to the VID Programming Code.", 16 NO_CPU (oc) "Open-Drain Logic Output. NO_CPU is pulled to ground if VID0 to VID3 are all high.", 17 VID0 (in) "VID Control Logic Input Pins.", 18 VID1 (in) "VID Control Logic Input Pins.", 19 VID2 (in) "VID Control Logic Input Pins.", 20 VID3 (in) "VID Control Logic Input Pins.", 21 VID4 (in) "VID Control Logic Input Pins.", 22 VBIAS (power) "Supply Pin for the VID Control Circuit.", 23 ATTENIN (in) "The Input to the VID Controlled Resistive Divider.", 24 TG2 (out), 25 SW2 "Switch Node Connections to Inductors. Voltage swing at these pins is from a Schottky diode (external) voltage drop below ground to VIN.", 26 BOOST2 "Bootstrapped Supplies to the Topside Floating Drivers. External capacitors are connected between the BOOST and SW pins, and Schottky diodes are connected between the BOOST and INTVCC pins.", 27 BG2 (out) "High Current Gate Drives for Bottom N-Channel MOSFETS. Voltage swing at these pins is from ground to INTVCC.", 28 PGND (power) "Driver Power Ground. Connect to sources of bottom N-channel MOSFETS and the (-) terminals of CIN.", 29 INTVCC (power) "Output of the Internal 5V Linear Low Dropout Regulator and the EXTVCC Switch. The driver and control circuits are powered from this voltage source. Decouple to power ground with a 1uF ceramic capacitor placed directly (See Datasheet)", 30 EXTVCC (power) "External Power Input to an Internal Switch. This switch closes and supplies INTVCC, bypassing the internallow dropout regulator whenever EXTVCC is higher than 4.7V. See EXTVCC Connection in the Applications Information (See Datasheet)", 31 BG1 (out) "High Current Gate Drives for Bottom N-Channel MOSFETS. Voltage swing at these pins is from ground to INTVCC.", 32 VIN (power) "Main Supply Pin. Should be closely decoupled to the IC’s signal ground pin.", 33 BOOST1 "Bootstrapped Supplies to the Topside Floating Drivers. External capacitors are connected between the BOOST and SW pins, and Schottky diodes are connected between the BOOST and INTVCC pins.", 34 SW1 "Switch Node Connections to Inductors. Voltage swing at these pins is from a Schottky diode (external) voltage drop below ground to VIN.", 35 TG1 (out), 36 PGOOD (oc) "Open-Drain Logic Output. PGOOD is pulled to ground when the voltage on the EAIN pin is not within +/-10% of its set point."